# Altium footprint library KF127-5.0-2P.PcbLib: 1 footprints
Each footprint in its own frame and in the unit in brackets; x right, y up, seen from the top. Pads: shape width x height; smd on the part's side, far side on the other; paste and mask are expansions set on the pad; w line width, h text height; cw(c..) or ccw(c..) is an arc to the next point about the centre after c.
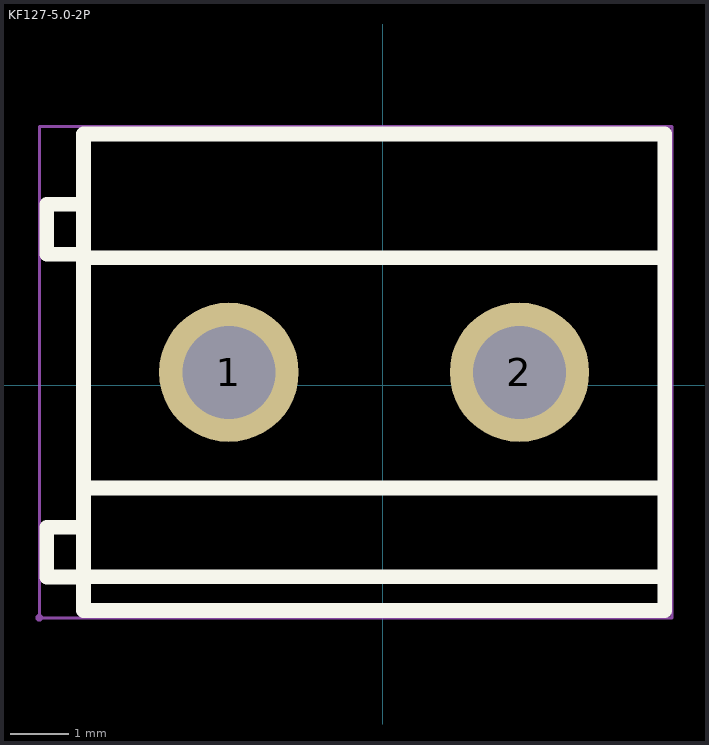
[diagram p0: the footprint, top view; thin cyan lines are the x and y axes]

## KF127-5.0-2P [mm]
pads (2):
  round 2.4 hole 1.6 paste-2539.97 mask+0.051: 1(-2.647,0.223) 2(2.353,0.223)
Top Overlay:
  lines w0.254: -5.147,-3.301 -5.782,-3.301 -5.782,-2.444 -5.147,-2.444 ; -5.147,-3.294 4.853,-3.294 ; -5.147,-1.77 4.853,-1.77 ; -5.147,2.193 4.853,2.193 ; -5.147,2.255 -5.782,2.255 -5.782,3.112 -5.147,3.112 ; -5.147,-3.877 -5.147,4.323 4.853,4.323 4.853,-3.877 -5.147,-3.877
Mechanical 15:
  region: -5.849,-4.004 -5.849,-3.979 -5.884,-3.944 -5.934,-3.944 -5.969,-3.979 -5.969,-4.004 -5.969,-4.029 -5.934,-4.064 -5.884,-4.064 -5.849,-4.029 -5.849,-4.004
  region: 3.053,0.223 3.052,0.314 3.003,0.49 2.91,0.648 2.78,0.776 2.621,0.867 2.444,0.914 2.262,0.914 2.085,0.867 1.926,0.776 1.796,0.648 1.703,0.49 1.654,0.314 1.653,0.223 1.654,0.132 1.703,-0.044 1.796,-0.202 1.926,-0.33 2.085,-0.421 2.262,-0.468 2.444,-0.468 2.621,-0.421 2.78,-0.33 2.91,-0.202 3.003,-0.044 3.052,0.132 3.053,0.223
  region: -1.947,0.223 -1.948,0.314 -1.997,0.49 -2.09,0.648 -2.22,0.776 -2.379,0.867 -2.556,0.914 -2.738,0.914 -2.915,0.867 -3.074,0.776 -3.204,0.648 -3.297,0.49 -3.346,0.314 -3.347,0.223 -3.346,0.132 -3.297,-0.044 -3.204,-0.202 -3.074,-0.33 -2.915,-0.421 -2.738,-0.468 -2.556,-0.468 -2.379,-0.421 -2.22,-0.33 -2.09,-0.202 -1.997,-0.044 -1.948,0.132 -1.947,0.223
  lines w0.051: -5.909,-4.004 -5.909,4.45 4.98,4.45 4.98,-4.004 -5.909,-4.004